# EAGLE library part 25AA1024-I_SM (library Deegou_IC)
1024k, 128K X 8 , 1.8V SER EEPROM IND Source: Datasheet <http://docs-emea.rs-online.com/webdocs/0db5/0900766b80db5d28.pdf>
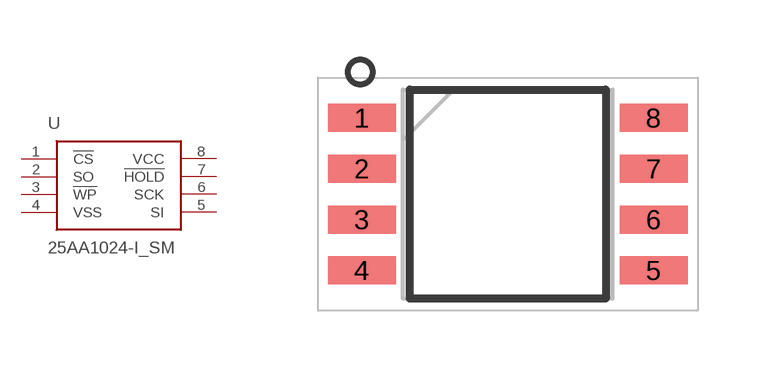
[diagram p149: symbol with the pads of SOIC127P794X203-8N; footprint SOIC127P794X203-8N]

Designator prefix U

## 25AA1024-I_SM (ALLIED_NUMBER: 70045896; ALLIED_PRICE-STOCK: https://www.alliedelec.com/microchiptechnologyinc-25aa1024-i-sm/70045896/; DESCRIPTION: 1024k, 128K X 8 , 1.8V SER EEPROM IND; HEIGHT: 2.03mm; MANUFACTURER_NAME: Microchip; MANUFACTURER_PART_NUMBER: 25AA1024-I/SM; MOUSER_PART_NUMBER: 579-25AA1024-I/SM; MOUSER_PRICE-STOCK: https://www.mouser.com/Search/Refine.aspx?Keyword=579-25AA1024-I%2FSM; RS_PART_NUMBER: 9115653; RS_PRICE-STOCK: http://uk.rs-online.com/web/p/products/9115653)  [SOIC127P794X203-8N]
1  !CS
2  SO
3  !WP
4  VSS
5  SI
6  SCK
7  !HOLD
8  VCC

## Footprint SOIC127P794X203-8N (pad centres in mm)
25AA1024-I/SM
smd 1.7 x 0.7: 1 -3.65,1.905; 2 -3.65,0.635; 3 -3.65,-0.635; 4 -3.65,-1.905; 5 3.65,-1.905; 6 3.65,-0.635; 7 3.65,0.635; 8 3.65,1.905